# EAGLE library part LM380N-AUDIO-PWR-AMP (library jim_muppet_parts)
2.5W Audio Power Amplifier
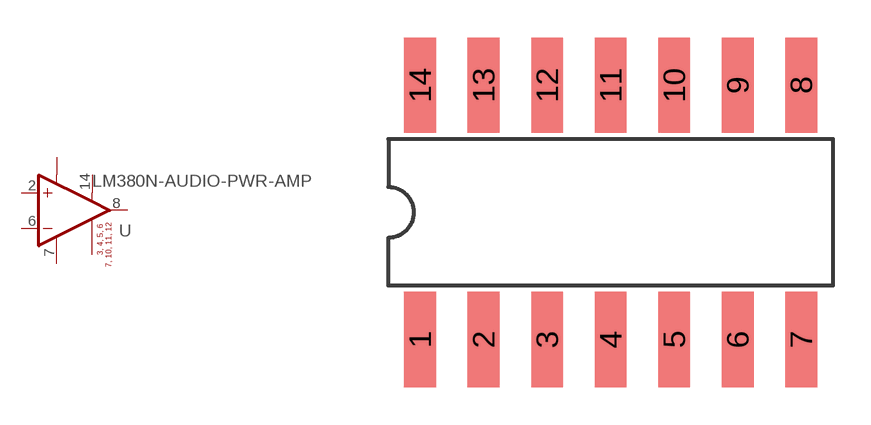
[diagram p7: symbol with the pads of DIL14; footprint DIL14]

Designator prefix U

## LM380N-AUDIO-PWR-AMPDIL14  [DIL14]
1  BYPASS  pas
2  +IN  in
3  GND  pas
4  GND  pas
5  GND  pas
6  -IN  in
7  GND1  pas
8  GAIN  out
10  GND  pas
11  GND  pas
12  GND  pas
14  V-SIG

## Footprint DIL14 (pad centres in mm)
Dual In Line Package
smd 1.27 x 3.81: 1 -3.81,-5.08; 2 -1.27,-5.08; 3 1.27,-5.08; 4 3.81,-5.08; 5 6.35,-5.08; 6 8.89,-5.08; 7 11.43,-5.08; 8 11.43,5.08; 9 8.89,5.08; 10 6.35,5.08; 11 3.81,5.08; 12 1.27,5.08; 13 -1.27,5.08; 14 -3.81,5.08